# Altium schematic symbol library Sch_IC.SchLib: 7 symbols
Pins are listed as number, name and electrical type; pins without a type are passive.

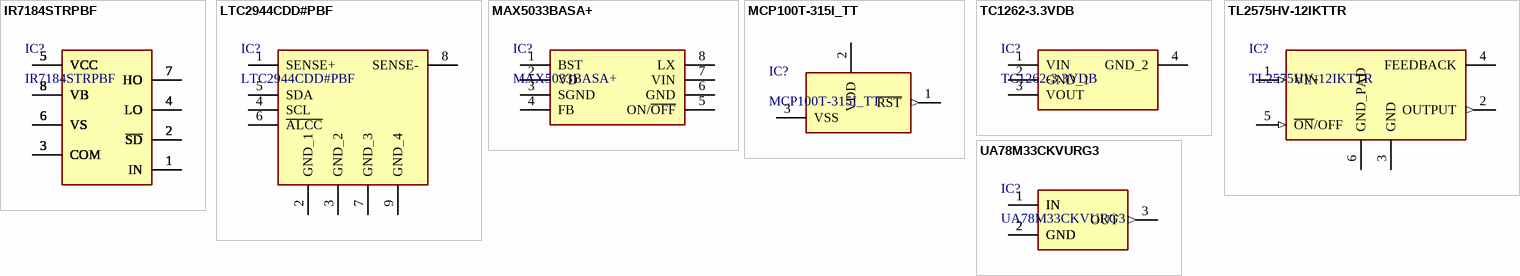
[diagram p0: symbols IR7184STRPBF to UA78M33CKVURG3]

## IR7184STRPBF
designator IC?
Integrated Circuit; Manufacturer_Name: Infineon; Datasheet Link: https://componentsearchengine.com/Datasheets/1/IR7184STRPBF.pdf; Height: 1.75mm; Manufacturer_Part_Number: IR7184STRPBF; Mouser Part Number: 942-IR7184STRPBF; Mouser Price/Stock: https://www.mouser.com/Search/Refine.aspx?Keyword=942-IR7184STRPBF; Arrow Part Number: IR7184STRPBF; Arrow Price/Stock: https://www.arrow.com/en/products/ir7184strpbf/infineon-technologies-ag
footprint SOIC127P600X175-8N
pins: 1 IN, 1 IN, 1 IN, 1 IN, 1 IN, 1 IN, 1 IN, 1 IN, 1 IN, 1 IN, 1 IN, 1 IN, 1 IN, 1 IN, 1 IN, 1 IN, 1 IN, 1 IN, 1 IN, 1 IN, 1 IN, 1 IN, 1 IN, 1 IN, 1 IN, 1 IN, 1 IN, 1 IN, 1 IN, 1 IN, 1 IN, 1 IN, 2 ~{SD}, 2 ~{SD}, 2 ~{SD}, 2 ~{SD}, 2 ~{SD}, 2 ~{SD}, 2 ~{SD}, 2 ~{SD}, 2 ~{SD}, 2 ~{SD}, 2 ~{SD}, 2 ~{SD}, 2 ~{SD}, 2 ~{SD}, 2 ~{SD}, 2 ~{SD}, 2 ~{SD}, 2 ~{SD}, 2 ~{SD}, 2 ~{SD}, 2 ~{SD}, 2 ~{SD}, 2 ~{SD}, 2 ~{SD}, 2 ~{SD}, 2 ~{SD}, 2 ~{SD}, 2 ~{SD}, 2 ~{SD}, 2 ~{SD}, 2 ~{SD}, 2 ~{SD}, 3 COM, 3 COM, 3 COM, 3 COM, 3 COM, 3 COM, 3 COM, 3 COM, 3 COM, 3 COM, 3 COM, 3 COM, 3 COM, 3 COM, 3 COM, 3 COM, 3 COM, 3 COM, 3 COM, 3 COM, 3 COM, 3 COM, 3 COM, 3 COM, 3 COM, 3 COM, 3 COM, 3 COM, 3 COM, 3 COM, 3 COM, 3 COM, 4 LO, 4 LO, 4 LO, 4 LO, 4 LO, 4 LO, 4 LO, 4 LO, 4 LO, 4 LO, 4 LO, 4 LO, 4 LO, 4 LO, 4 LO, 4 LO, 4 LO, 4 LO, 4 LO, 4 LO, 4 LO, 4 LO, 4 LO, 4 LO, 4 LO, 4 LO, 4 LO, 4 LO, 4 LO, 4 LO, 4 LO, 4 LO, 5 VCC, 5 VCC, 5 VCC, 5 VCC, 5 VCC, 5 VCC, 5 VCC, 5 VCC, 5 VCC, 5 VCC, 5 VCC, 5 VCC, 5 VCC, 5 VCC, 5 VCC, 5 VCC, 5 VCC, 5 VCC, 5 VCC, 5 VCC, 5 VCC, 5 VCC, 5 VCC, 5 VCC, 5 VCC, 5 VCC, 5 VCC, 5 VCC, 5 VCC, 5 VCC, 5 VCC, 5 VCC, 6 VS, 6 VS, 6 VS, 6 VS, 6 VS, 6 VS, 6 VS, 6 VS, 6 VS, 6 VS, 6 VS, 6 VS, 6 VS, 6 VS, 6 VS, 6 VS, 6 VS, 6 VS, 6 VS, 6 VS, 6 VS, 6 VS, 6 VS, 6 VS, 6 VS, 6 VS, 6 VS, 6 VS, 6 VS, 6 VS, 6 VS, 6 VS, 7 HO, 7 HO, 7 HO, 7 HO, 7 HO, 7 HO, 7 HO, 7 HO, 7 HO, 7 HO, 7 HO, 7 HO, 7 HO, 7 HO, 7 HO, 7 HO, 7 HO, 7 HO, 7 HO, 7 HO, 7 HO, 7 HO, 7 HO, 7 HO, 7 HO, 7 HO, 7 HO, 7 HO, 7 HO, 7 HO, 7 HO, 7 HO, 8 VB, 8 VB, 8 VB, 8 VB, 8 VB, 8 VB, 8 VB, 8 VB, 8 VB, 8 VB, 8 VB, 8 VB, 8 VB, 8 VB, 8 VB, 8 VB, 8 VB, 8 VB, 8 VB, 8 VB, 8 VB, 8 VB, 8 VB, 8 VB, 8 VB, 8 VB, 8 VB, 8 VB, 8 VB, 8 VB, 8 VB, 8 VB

## LTC2944CDD#PBF
designator IC?
Integrated Circuit; Manufacturer_Name: Analog Devices; Datasheet Link: https://www.analog.com/media/en/technical-documentation/data-sheets/2944fa.pdf; Height: 0.8mm; Manufacturer_Part_Number: LTC2944CDD#PBF; Mouser Part Number: 584-LTC2944CDDPBF; Mouser Price/Stock: https://www.mouser.co.uk/ProductDetail/Analog-Devices/LTC2944CDDPBF?qs=u4fy%2FsgLU9Omd44j%252B6inEQ%3D%3D; Arrow Part Number: LTC2944CDD#PBF; Arrow Price/Stock: https://www.arrow.com/en/products/ltc2944cddpbf/analog-devices
footprint SON50P300X300X80-9N-D
pins: 1 SENSE+, 2 GND_1, 3 GND_2, 4 SCL, 5 SDA, 6 ~{ALCC}, 7 GND_3, 8 SENSE-, 9 GND_4

## MAX5033BASA+
designator IC?
Integrated Circuit; Manufacturer_Name: Maxim Integrated; Datasheet Link: http://datasheets.maximintegrated.com/en/ds/MAX5033.pdf; Height: 1.75mm; Manufacturer_Part_Number: MAX5033BASA+; Mouser Part Number: 700-MAX5033BASA; Mouser Price/Stock: https://www.mouser.co.uk/ProductDetail/Maxim-Integrated/MAX5033BASA%2b?qs=Mqkh4jHMT8yAY9iARDroCQ%3D%3D
footprint SOIC127P600X175-8N
pins: 1 BST, 2 VD, 3 SGND, 4 FB, 5 ON/~{OFF}, 6 GND, 7 VIN, 8 LX

## MCP100T-315I_TT
designator IC?
Integrated Circuit; Manufacturer_Name: Microchip; Manufacturer_Part_Number: MCP100T-315I/TT; Datasheet Link: http://docs-emea.rs-online.com/webdocs/0d03/0900766b80d034b8.pdf; Height: 1.12mm; Mouser Part Number: 579-MCP100T-315I/TT; Mouser Price/Stock: https://www.mouser.co.uk/ProductDetail/Microchip-Technology/MCP100T-315I-TT?qs=cQYLKLPzRJnnE4Sa6znIFg%3D%3D; Arrow Part Number: MCP100T-315I/TT; Arrow Price/Stock: https://www.arrow.com/en/products/mcp100t-315itt/microchip-technology?region=nac
footprint SOT96P237X112-3N
pins: 1 ~{RST} (out), 2 VDD, 3 VSS

## TC1262-3.3VDB
designator IC?
Integrated Circuit; Manufacturer_Name: Microchip; Datasheet Link: http://ww1.microchip.com/downloads/en/DeviceDoc/21373C.pdf; Height: 1.8mm; Manufacturer_Part_Number: TC1262-3.3VDB; Mouser Part Number: 579-TC1262-3.3VDB; Mouser Price/Stock: https://www.mouser.co.uk/ProductDetail/Microchip-Technology/TC1262-33VDB?qs=Jw2w9zrI6w%252BwE14QJIhJFA%3D%3D; Arrow Part Number: TC1262-3.3VDB; Arrow Price/Stock: https://www.arrow.com/en/products/tc1262-3.3vdb/microchip-technology?region=nac
footprint SOT230P700X180-4N
pins: 1 VIN, 2 GND_1, 3 VOUT, 4 GND_2

## TL2575HV-12IKTTR
designator IC?
Integrated Circuit; Manufacturer_Name: Texas Instruments; Datasheet Link: http://www.ti.com/lit/ds/symlink/tl2575-15.pdf; Height: 5.13mm; Manufacturer_Part_Number: TL2575HV-12IKTTR; Mouser Part Number: 595-TL2575HV-12IKTTR; Mouser Price/Stock: https://www.mouser.co.uk/ProductDetail/Texas-Instruments/TL2575HV-12IKTTR?qs=EnLMdcWnKADDmW7d51Om1g%3D%3D; Arrow Part Number: TL2575HV-12IKTTR; Arrow Price/Stock: https://www.arrow.com/en/products/tl2575hv-12ikttr/texas-instruments?region=nac
footprint TO170P1524X483-6N
pins: 1 VIN (in), 2 OUTPUT (out), 3 GND (power), 4 FEEDBACK, 5 ~{ON}/OFF (in), 6 GND_PAD (power)

## UA78M33CKVURG3
designator IC?
Integrated Circuit; Manufacturer_Name: Texas Instruments; Datasheet Link: https://www.ti.com/lit/gpn/ua78m?HQS=ti-null-null-sf-df-pf-sep-wwe&DCM=yes; Height: 2.52mm; Manufacturer_Part_Number: UA78M33CKVURG3; Mouser Part Number: 595-UA78M33CKVURG3; Mouser Price/Stock: https://www.mouser.co.uk/ProductDetail/Texas-Instruments/UA78M33CKVURG3?qs=0O%2FZFlpUpJXrDg4gfD1Q2g%3D%3D; Arrow Part Number: UA78M33CKVURG3; Arrow Price/Stock: https://www.arrow.com/en/products/ua78m33ckvurg3/texas-instruments
footprint TPS7A6533QKVURQ1
pins: 1 IN, 1 IN, 2 GND, 2 GND, 3 OUT (out)